# EAGLE library part 1X06 (library arducorder-mini)
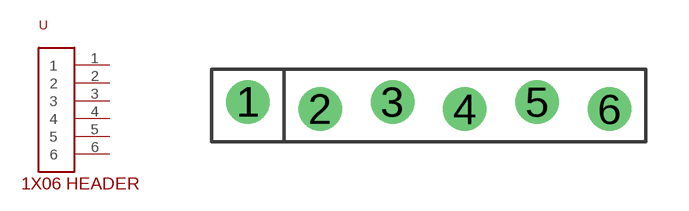
[diagram p8: symbol with the pads of 1X06; footprint 1X06]

Designator prefix -

## 1X06  [1X06]
1  1
2  2
3  3
4  4
5  5
6  6

## Footprint 1X06 (pad centres in mm)
drill 1.016: 1 0,0.127; 2 2.54,-0.127; 3 5.08,0.127; 4 7.62,-0.127; 5 10.16,0.127; 6 12.7,-0.127